# Altium schematic symbol library ACS758ECB-200B-PFF-T.SchLib: 1 symbol
Pins are listed as number, name and electrical type; pins without a type are passive.

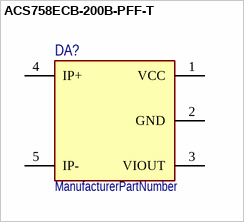
[diagram p0: symbol ACS758ECB-200B-PFF-T]

## ACS758ECB-200B-PFF-T
designator DA?  (value not drawn)
ManufacturerPartNumber: ManufacturerPartNumber
pins: 1 VCC, 2 GND, 3 VIOUT, 4 IP+, 5 IP-